# Altium footprint library Ring Flex PCB Lib.PcbLib: 2 footprints
Each footprint in its own frame and in the unit in brackets; x right, y up, seen from the top. Pads: shape width x height; smd on the part's side, far side on the other; paste and mask are expansions set on the pad; w line width, h text height; cw(c..) or ccw(c..) is an arc to the next point about the centre after c.
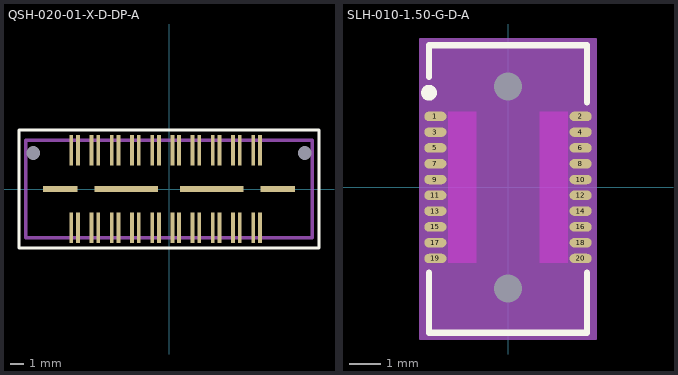
[diagram p0: the footprints below, top view; thin cyan lines are the x and y axes]

## QSH-020-01-X-D-DP-A [mm]
pads (46):
  rect 0.28x2.27 smd: 1(-7.25,-2.87) 2(-7.25,2.87) 3(-6.75,-2.87) 4(-6.75,2.87) 5(-5.75,-2.87) 6(-5.75,2.87) 7(-5.25,-2.87) 8(-5.25,2.87) 9(-4.25,-2.87) 10(-4.25,2.87) 11(-3.75,-2.87) 12(-3.75,2.87) 13(-2.75,-2.87) 14(-2.75,2.87) 15(-2.25,-2.87) 16(-2.25,2.87) 17(-1.25,-2.87) 18(-1.25,2.87) 19(-0.75,-2.87) 20(-0.75,2.87) 21(0.25,-2.87) 22(0.25,2.87) 23(0.75,-2.87) 24(0.75,2.87) 25(1.75,-2.87) 26(1.75,2.87) 27(2.25,-2.87) 28(2.25,2.87) 29(3.25,-2.87) 30(3.25,2.87) 31(3.75,-2.87) 32(3.75,2.87) 33(4.75,-2.87) 34(4.75,2.87) 35(5.25,-2.87) 36(5.25,2.87) 37(6.25,-2.87) 38(6.25,2.87) 39(6.75,-2.87) 40(6.75,2.87)
  rect 2.54x0.43 smd: G1(-8.065,0) G4(8.065,0)
  rect 4.7x0.43 smd: G2(-3.175,0) G3(3.175,0)
  round 0 hole 1.02 unplated: MH1(-10.065,2.67) MH2(10.065,2.67)
Top Overlay:
  lines w0.254: -11.13,-4.38 11.13,-4.38 11.13,4.38 -11.13,4.38 -11.13,-4.38
Top Assembly Layer:
  lines w0.254: -10.636,-3.62 10.636,-3.62 10.636,3.62 -10.636,3.62 -10.636,-3.62
  text ".Designator" at -0.497,-0.508 h0.76
3D body "QSH-020-01-F-D-DP-A.stp": height 3.25, standoff -0.75, extent -10.655,-3.744 10.655,3.75

## SLH-010-1.50-G-D-A [mm] "0.50 mm Razor Beam™ LP Ultra Low Profile Socket Strip"
height 2
pads (22):
  oval 0.7x0.3 smd: 1(-2.3,2.25) 2(2.3,2.25) 3(-2.3,1.75) 4(2.3,1.75) 5(-2.3,1.25) 6(2.3,1.25) 7(-2.3,0.75) 8(2.3,0.75) 9(-2.3,0.25) 10(2.3,0.25) 11(-2.3,-0.25) 12(2.3,-0.25) 13(-2.3,-0.75) 14(2.3,-0.75) 15(-2.3,-1.25) 16(2.3,-1.25) 17(-2.3,-1.75) 18(2.3,-1.75) 19(-2.3,-2.25) 20(2.3,-2.25)
  round 0 hole 0.89 unplated: MH(0,-3.2) MH(0,3.2)
Top Layer keep-out:
  rectangle: -1.9,-2.4 -1,2.4
  rectangle: 1,-2.4 1.9,2.4
Top Overlay:
  circle w0.25: c-2.5,3 r0.125
  lines w0.2: -2.5,-2.7 -2.5,-4.6 2.5,-4.6 2.5,-3.8 2.5,-2.7 ; -2.5,3.5 -2.5,4.5 2.5,4.5 2.5,2.7
Top Assembly Layer:
  circle w0.1: c-2.2,3.1 r0.5
  lines w0.1: -2.5,-4.6 -2.5,4.46 2.5,4.46 2.5,-4.6 -2.5,-4.6
  text ".Designator" at -1.2,-0.8 h0.5
Top Placement Courtyard:
  lines w0.05: -0.5,0 0.5,0 ; 0,-0.5 0,0.5 ; -2.8,-4.8 -2.8,-2.3 -2.8,4.7 2.8,4.7 2.8,2.1 2.8,-4.8 -2.8,-4.8
Mechanical 27:
  pour cut-out: -2.8,4.7 2.8,4.7 2.8,-4.8 -2.8,-4.8
3D body "SLH-010-1.50-G-D-A.stp": height 1.82, standoff -0.56, extent -2.5,-4.53 2.5,4.53